# EAGLE library part KLEMME_1-35 (library e-klemmen)
Klemme 35 Pol.
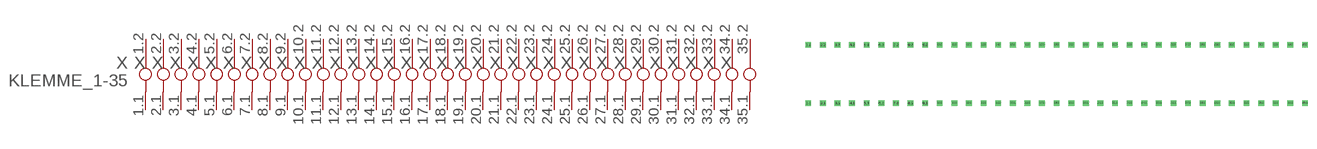
[diagram p45: symbol with the pads of KLEMME_1-35; footprint KLEMME_1-35]

Designator prefix X; gates 1=KLEMME_1-1 2=KLEMME_2 3=KLEMME_3 4=KLEMME_4 5=KLEMME_5 6=KLEMME_6 7=KLEMME_7 8=KLEMME_8 9=KLEMME_9 10=KLEMME_10 11=KLEMME_11 12=KLEMME_12 13=KLEMME_13 14=KLEMME_14 15=KLEMME_15 16=KLEMME_16 17=KLEMME_17 18=KLEMME_18 19=KLEMME_19 20=KLEMME_20 21=KLEMME_21 22=KLEMME_22 23=KLEMME_23 24=KLEMME_24 25=KLEMME_25 26=KLEMME_26 27=KLEMME_27 28=KLEMME_28 29=KLEMME_29 30=KLEMME_30 31=KLEMME_31 32=KLEMME_32 33=KLEMME_33 34=KLEMME_34 35=KLEMME_35

## KLEMME_1-35  [KLEMME_1-35]
1.1  1:1.1  pas
1.2  1:1.2  pas
2.1  2:2.1  pas
2.2  2:2.2  pas
3.1  3:3.1  pas
3.2  3:3.2  pas
4.1  4:4.1  pas
4.2  4:4.2  pas
5.1  5:5.1  pas
5.2  5:5.2  pas
6.1  6:6.1  pas
6.2  6:6.2  pas
7.1  7:7.1  pas
7.2  7:7.2  pas
8.1  8:8.1  pas
8.2  8:8.2  pas
9.1  9:9.1  pas
9.2  9:9.2  pas
10.1  10:10.1  pas
10.2  10:10.2  pas
11.1  11:11.1  pas
11.2  11:11.2  pas
12.1  12:12.1  pas
12.2  12:12.2  pas
13.1  13:13.1  pas
13.2  13:13.2  pas
14.1  14:14.1  pas
14.2  14:14.2  pas
15.1  15:15.1  pas
15.2  15:15.2  pas
16.1  16:16.1  pas
16.2  16:16.2  pas
17.1  17:17.1  pas
17.2  17:17.2  pas
18.1  18:18.1  pas
18.2  18:18.2  pas
19.1  19:19.1  pas
19.2  19:19.2  pas
20.1  20:20.1  pas
20.2  20:20.2  pas
21.1  21:21.1  pas
21.2  21:21.2  pas
22.1  22:22.1  pas
22.2  22:22.2  pas
23.1  23:23.1  pas
23.2  23:23.2  pas
24.1  24:24.1  pas
24.2  24:24.2  pas
25.1  25:25.1  pas
25.2  25:25.2  pas
26.1  26:26.1  pas
26.2  26:26.2  pas
27.1  27:27.1  pas
27.2  27:27.2  pas
28.1  28:28.1  pas
28.2  28:28.2  pas
29.1  29:29.1  pas
29.2  29:29.2  pas
30.1  30:30.1  pas
30.2  30:30.2  pas
31.1  31:31.1  pas
31.2  31:31.2  pas
32.1  32:32.1  pas
32.2  32:32.2  pas
33.1  33:33.1  pas
33.2  33:33.2  pas
34.1  34:34.1  pas
34.2  34:34.2  pas
35.1  35:35.1  pas
35.2  35:35.2  pas

## Footprint KLEMME_1-35 (pad centres in mm)
Dummy
drill 0.5 pad 1 square: 1.1 0,-12.7; 1.2 0,-2.54; 2.1 2.54,-12.7; 2.2 2.54,-2.54; 3.1 5.08,-12.7; 3.2 5.08,-2.54; 4.1 7.62,-12.7; 4.2 7.62,-2.54; 5.1 10.16,-12.7; 5.2 10.16,-2.54; 6.1 12.7,-12.7; 6.2 12.7,-2.54; 7.1 15.24,-12.7; 7.2 15.24,-2.54; 8.1 17.78,-12.7; 8.2 17.78,-2.54; 9.1 20.32,-12.7; 9.2 20.32,-2.54; 10.1 22.86,-12.7; 10.2 22.86,-2.54; 11.1 25.4,-12.7; 11.2 25.4,-2.54; 12.1 27.94,-12.7; 12.2 27.94,-2.54; 13.1 30.48,-12.7; 13.2 30.48,-2.54; 14.1 33.02,-12.7; 14.2 33.02,-2.54; 15.1 35.56,-12.7; 15.2 35.56,-2.54; 16.1 38.1,-12.7; 16.2 38.1,-2.54; 17.1 40.64,-12.7; 17.2 40.64,-2.54; 18.1 43.18,-12.7; 18.2 43.18,-2.54; 19.1 45.72,-12.7; 19.2 45.72,-2.54; 20.1 48.26,-12.7; 20.2 48.26,-2.54; 21.1 50.8,-12.7; 21.2 50.8,-2.54; 22.1 53.34,-12.7; 22.2 53.34,-2.54; 23.1 55.88,-12.7; 23.2 55.88,-2.54; 24.1 58.42,-12.7; 24.2 58.42,-2.54; 25.1 60.96,-12.7; 25.2 60.96,-2.54; 26.1 63.5,-12.7; 26.2 63.5,-2.54; 27.1 66.04,-12.7; 27.2 66.04,-2.54; 28.1 68.58,-12.7; 28.2 68.58,-2.54; 29.1 71.12,-12.7; 29.2 71.12,-2.54; 30.1 73.66,-12.7; 30.2 73.66,-2.54; 31.1 76.2,-12.7; 31.2 76.2,-2.54; 32.1 78.74,-12.7; 32.2 78.74,-2.54; 33.1 81.28,-12.7; 33.2 81.28,-2.54; 34.1 83.82,-12.7; 34.2 83.82,-2.54; 35.1 86.36,-12.7; 35.2 86.36,-2.54